# Altium schematic symbol library schlib.SchLib: 132 symbols (part 2 of 2)
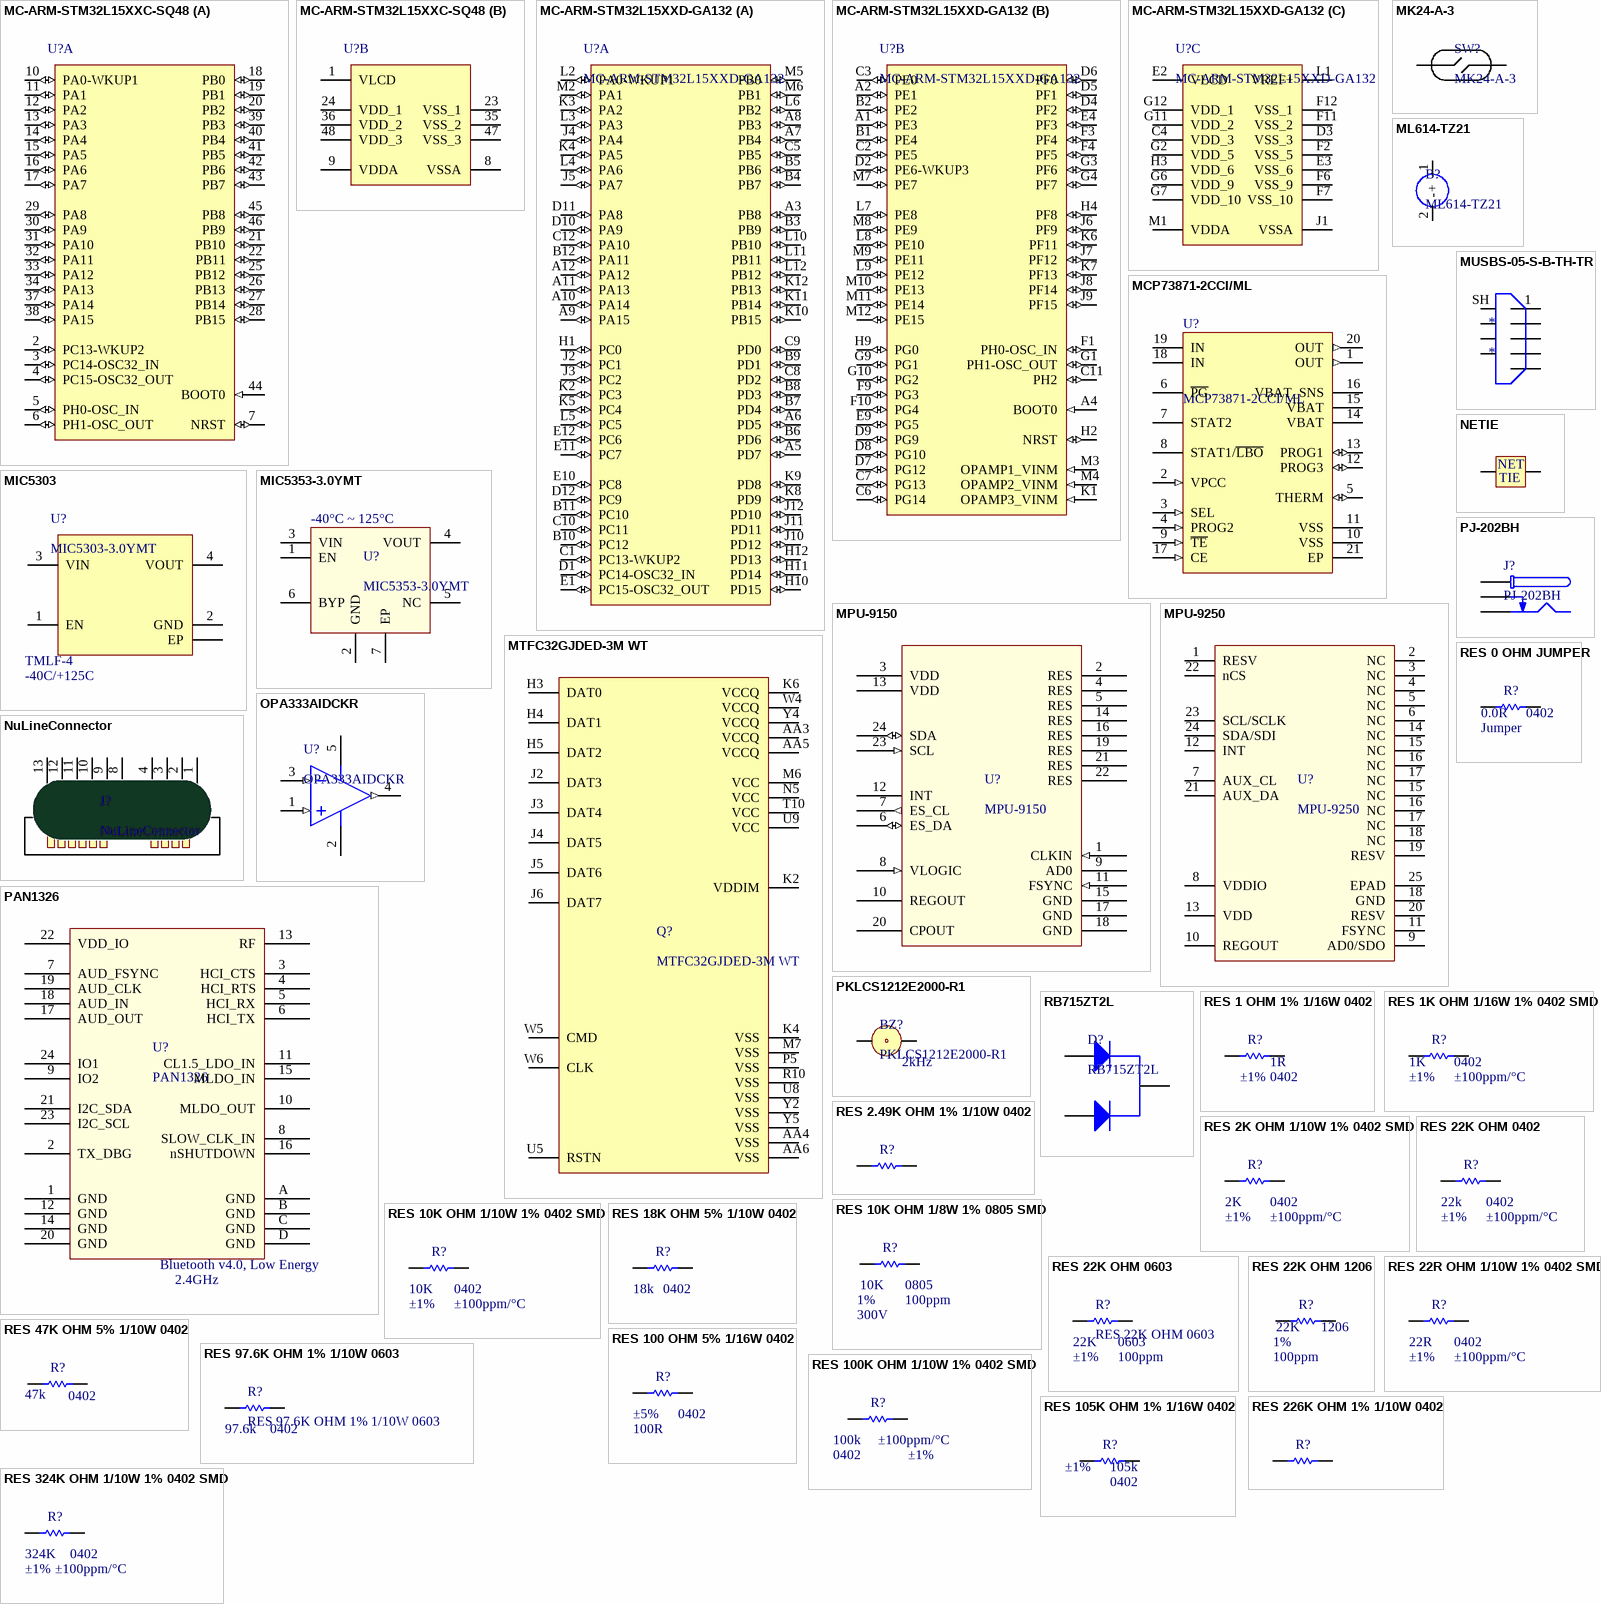
[diagram p5: symbols MC-ARM-STM32L15XXC-SQ48 to RES 324K OHM 1/10W 1% 0402 SMD]

## MC-ARM-STM32L15XXD-GA132
designator U?
MCU ARM 384KB FLASH 132BGA; Core Processor: ARM® Cortex®-M3; Core Size: 32-Bit; Soeed: 32MHz; Connectivity: I²C, IrDA, LIN, SPI, UART/USART, USB; number of I/O: 109; Program Memory Size: 384KB (384K x 8); EEPROM Size: 12K x 8; RAM Size: 48K x 8; Voltage - Supply (Vcc/Vdd): 1.8 V ~ 3.6 V; Program Memory Type: FLASH; Operating Temperature: -40°C ~ 85°C; Package / Case: 132-UFBGA
footprint STM-UFBGA132 (BGA, 132-Balls, Body 7x7mm, Pitch 0.5mm)
part A pins: A3 PB8 (io) "PB8/TIM4_CH3/TIM10_CH1/I2C1_SCL/LCD_SEG16/SDIO_D4", A5 PD7 (io) "PD7/TIM9_CH2/USART2_CK/FSMC_NE1", A6 PD5 (io) "PD5/USART2_TX/FSMC_NWE", A7 PB4 (io) "PB4/NJTRST/TIM3_CH1/SPI1_MISO/SPI3_MISO/LCD_SEG8/COMP2_INP", A8 PB3 (io) "PB3/JTDO/TIM2_CH2/SPI1_SCK/SPI3_SCK/I2S3_CK/LCD_SEG7/COMP2_INM", A9 PA15 (io) "PA15/JTDI/TIM2_CH1_ETR/SPI1_NSS/SPI3_NSS/I2S3_WS/LCD_SEG17", A10 PA14 (io) "PA14/JTCK-SWCLK", A11 PA13 (io) "PA13/JTMS-SWDAT", A12 PA12 (io) "PA12/USART1_RTS/USB_DP/SPI1_MOSI", B3 PB9 (io) "PB9/TIM4_CH4/TIM11_CH1/I2C1_SDA/LCD_COM3/SDIO_D5", B4 PB7 (io) "PB7/TIM4_CH2/I2C1_SDA/USART1_RX/PVD_IN/FSMC_NADV/COMP2_INP", B5 PB6 (io) "PB6/TIM4_CH1/I2C1_SCL/USART1_TX/COMP2_INP", B6 PD6 (io) "PD6/USART2_RX/FSMC_NWAIT", B7 PD4 (io) "PD4/SPI2_MOSI/I2S2_SD/USART2_RTS/FSMC_NOE", B8 PD3 (io) "PD3/SPI2_MISO/USART2_CTS/FSMC_CLK", B9 PD1 (io) "PD1/SPI2_SCK/I2S2_CK/FSMC_D3", B10 PC12 (io) "PC12/SPI3_MOSI/I2S3_SD/USART3_CK/UART5_TX/LCD_SEG30/LCD_SEG42/LCD_COM6/SDIO_CK", B11 PC10 (io) "PC10/SPI3_SCK/I2S3_CK/USART3_TX/UART4_TX/LCD_SEG28/LCD_SEG40/LCD_COM4/SDIO_D2", B12 PA11 (io) "PA11/USART1_CTS/USB_DM/SPI1_MISO", C1 PC13-WKUP2 (io) "PC13-WKUP2/PC13/WKUP2/RTC_TAMP1/RTC_TS/RTC_OUT", C5 PB5 (io) "PB5/TIM3_CH2/I2C1_SMBA/SPI1_MOSI/SPI3_MOSI/I2S3_SD/LCD_SEG9/COMP2_INP", C8 PD2 (io) "PD2/TIM3_ETR/UART5_RX/LCD_SEG31/LCD_SEG43/LCD_COM7/SDIO_CMD", C9 PD0 (io) "PD0/TIM9_CH1/SPI2_NSS/I2S2_WS/FSMC_D2", C10 PC11 (io) "PC11/SPI3_MISO/USART3_RX/UART4_RX/LCD_SEG29/LCD_SEG41/LCD_COM5/SDIO_D3", C12 PA10 (io) "PA10/USART1_RX/LCD_COM2", D1 PC14-OSC32_IN (io) "PC14-OSC32_IN/PC14/OSC32_IN", D10 PA9 (io) "PA9/USART1_TX/LCD_COM1", D11 PA8 (io) "PA8/USART1_CK/MCO/LCD_COM0", D12 PC9 (io) "PC9/TIM3_CH4/LCD_SEG27/SDIO_D1", E1 PC15-OSC32_OUT (io) "PC15-OSC32_OUT/PC15/OSC32_OUT", E10 PC8 (io) "PC8/TIM3_CH3/LCD_SEG26/SDIO_D0", E11 PC7 (io) "PC7/TIM3_CH2/I2S3_MCK/LCD_SEG25/SDIO_D7", E12 PC6 (io) "PC6/TIM3_CH1/I2S2_MCK/LCD_SEG24/SDIO_D6", H1 PC0 (io) "PC0/LCD_SEG18/ADC_IN10/COMP1_INP", H10 PD15 (io) "PD15/TIM4_CH4/LCD_SEG35/FSMC_D1", H11 PD14 (io) "PD14/TIM4_CH3/LCD_SEG34/FSMC_D0", H12 PD13 (io) "PD13/TIM4_CH2/LCD_SEG33/FSMC_A18", J2 PC1 (io) "PC1/LCD_SEG19/ADC_IN11/COMP1_INP/OPAMP3_VINP", J3 PC2 (io) "PC2/LCD_SEG20/ADC_IN12/COMP1_INP", J4 PA4 (io) "PA4/SPI1_NSS/SPI3_NSS/I2S3_WS/USART2_CK/ADC_IN4/DAC_OUT1/COMP1_INP", J5 PA7 (io) "PA7/TIM3_CH2/TIM11_CH1/SPI1_MOSI/LCD_SEG4/ADC_IN7/COMP1_INP", J10 PD12 (io) "PD12/TIM4_CH1/USART3_RTS/LCD_SEG32/FSMC_A17", J11 PD11 (io) "PD11/USART3_CTS/LCD_SEG31/FSMC_A16", J12 PD10 (io) "PD10/USART3_CK/LCD_SEG30/FSMC_D15", K2 PC3 (io) "PC3/LCD_SEG21/ADC_IN13/COMP1_INP/OPAMP3_VOUT", K3 PA2 (io) "PA2/TIM2_CH3/TIM5_CH3/TIM9_CH1/USART2_TX/LCD_SEG1/ADC_IN2/COMP1_INP", K4 PA5 (io) "PA5/TIM2_CH1_ETR/SPI1_SCK/ADC_IN5/DAC_OUT2/COMP1_INP", K5 PC4 (io) "PC4/LCD_SEG22/ADC_IN14/COMP1_INP", K8 PD9 (io) "PD9/USART3_RX/LCD_SEG29/FSMC_D14", K9 PD8 (io) "PD8/USART3_TX/LCD_SEG28/FSMC_D13", K10 PB15 (io) "PB15/TIM11_CH1/SPI2_MOSI/I2S2_SD/LCD_SEG15/ADC_IN21/COMP1_INP/RTC_REFIN", K11 PB14 (io) "PB14/TIM9_CH2/SPI2_MISO/USART3_RTS/LCD_SEG14/ADC_IN20/COMP1_INP", K12 PB13 (io) "PB13/TIM9_CH1/SPI2_SCK/I2S2_CK/USART3_CTS/LCD_SEG13/ADC_IN19/COMP1_INP", L2 PA0-WKUP1 (io) "PA0-WKUP1/PA0/WKUP1/RTC_TAMP2/TIM2_CH1_ETR/TIM5_CH1/USART2_CTS/ADC_IN0/COMP1_INP", L3 PA3 (io) "PA3/TIM2_CH4/TIM5_CH4/TIM9_CH2/USART2_RX/LCD_SEG2/ADC_IN3/COMP1_INP/OPAMP1_VOUT", L4 PA6 (io) "PA6/TIM3_CH1/TIM10_CH1/SPI1_MISO/LCD_SEG3/ADC_IN6/COMP1_INP/OPAMP2_VINP", L5 PC5 (io) "PC5/LCD_SEG23/ADC_IN15/COMP1_INP", L6 PB2 (io) "PB2/BOOT1/ADC_IN0B/COMP1_INP", L10 PB10 (io) "PB10/TIM2_CH3/I2C2_SCL/USART3_TX/LCD_SEG10", L11 PB11 (io) "PB11/TIM2_CH4/I2C2_SDA/USART3_RX/LCD_SEG11", L12 PB12 (io) "PB12/TIM10_CH1/I2C2_SMBA/SPI2_NSS/I2S2_WS/USART3_CK/LCD_SEG12/ADC_IN18/COMP1_INP", M2 PA1 (io) "PA1/TIM2_CH2/TIM5_CH2/USART2_RTS/LCD_SEG0/ADC_IN1/COMP1_INP/OPAMP1_VINP", M5 PB0 (io) "PB0/TIM3_CH3/LCD_SEG5/ADC_IN8/COMP1_INP/VREF_OUT/OPAMP2_VOUT", M6 PB1 (io) "PB1/TIM3_CH4/LCD_SEG6/ADC_IN9/COMP1_INP/VREF_OUT"
part B pins: A1 PE3 (io) "PE3/TIM3_CH1/LCD_SEG39/FSMC_A19/TRACED0", A2 PE1 (io) "PE1/TIM11_CH1/LCD_SEG37/FSMC_NBL1", A4 BOOT0 (in), B1 PE4 (io) "PE4/TIM3_CH2/FSMC_A20/TRACED1", B2 PE2 (io) "PE2/TIM3_ETR/LCD_SEG38/FSMC_A23/TRACECLK", C2 PE5 (io) "PE5/TIM9_CH1/FSMC_A21/TRACED2", C3 PE0 (io) "PE0/TIM4_ETR/TIM10_CH1/LCD_SEG36/FSMC_NBL0", C6 PG14 (io) "PG14/FSMC_A25", C7 PG13 (io) "PG13/FSMC_A24", C11 PH2 (io) "PH2/FSMC_A22", D2 PE6-WKUP3 (io) "PE6-WKUP3/PE6/WKUP3/RTC_TAMP3/TIM9_CH2/TRACED3", D4 PF2 (io) "PF2/FSMC_A2", D5 PF1 (io) "PF1/FSMC_A1", D6 PF0 (io) "PF0/FSMC_A0", D7 PG12 (io) "PG12/FSMC_NE4", D8 PG10 (io) "PG10/FSMC_NE3", D9 PG9 (io) "PG9/FSMC_NE2", E4 PF3 (io) "PF3/FSMC_A3", E9 PG5 (io) "PG5/FSMC_A15", F1 PH0-OSC_IN (io) "PH0-OSC_IN/PH0/OSC_IN", F3 PF4 (io) "PF4/FSMC_A4", F4 PF5 (io) "PF5/FSMC_A5", F9 PG3 (io) "PG3/FSMC_A13/ADC_IN11B/COMP1_INP", F10 PG4 (io) "PG4/FSMC_A14/ADC_IN12B/COMP1_INP", G1 PH1-OSC_OUT (io) "PH1-OSC_OUT/PH1/OSC_OUT", G3 PF6 (io) "PF6/TIM5_CH1/TIM5_ETR/ADC_IN27", G4 PF7 (io) "PF7/TIM5_CH2/ADC_IN28/COMP1_INP", G9 PG1 (io) "PG1/ADC_IN9B/COMP1_INP/FSMC_A11", G10 PG2 (io) "PG2/FSMC_A12/ADC_IN10B/COMP1_INP", H2 NRST (io), H4 PF8 (io) "PF8/TIM5_CH3/ADC_IN29/COMP1_INP", H9 PG0 (io) "PG0/ADC_IN8B/COMP1_INP/FSMC_A10", J6 PF9 (io) "PF9/TIM5_CH4/ADC_IN30/COMP1_INP", J7 PF12 (io) "PF12/ADC_IN2B/COMP1_INP/FSMC_A6", J8 PF14 (io) "PF14/ADC_IN6B/COMP1_INP/FSMC_A8", J9 PF15 (io) "PF15/ADC_IN7B/COMP1_INP/FSMC_A9", K1 OPAMP3_VINM (in), K6 PF11 (io) "PF11/ADC_IN1B/COMP1_INP", K7 PF13 (io) "PF13/ADC_IN3B/COMP1_INP/FSMC_A7", L7 PE8 (io) "PE8/FSMC_D5/ADC_IN23/COMP1_INP", L8 PE10 (io) "PE10/TIM2_CH2/FSMC_D7/ADC_IN25/COMP1_INP", L9 PE12 (io) "PE12/TIM2_CH4/SPI1_NSS/FSMC_D9", M3 OPAMP1_VINM (in), M4 OPAMP2_VINM (in), M7 PE7 (io) "PE7/FSMC_D4/ADC_IN22/COMP1_INP", M8 PE9 (io) "PE9/TIM2_CH1_ETR/FSMC_D6/ADC_IN24/COMP1_INP", M9 PE11 (io) "PE11/TIM2_CH3/FSMC_D8", M10 PE13 (io) "PE13/SPI1_SCK/FSMC_D10", M11 PE14 (io) "PE14/SPI1_MISO/FSMC_D11", M12 PE15 (io) "PE15/SPI1_MOSI/FSMC_D12"
part C pins: C4 VDD_3 (power), D3 VSS_3 (power), E2 VLCD (power), E3 VSS_6 (power), F2 VSS_5 (power), F6 VSS_9 (power), F7 VSS_10 (power), F11 VSS_2 (power), F12 VSS_1 (power), G2 VDD_5 (power), G6 VDD_9 (power), G7 VDD_10 (power), G11 VDD_2 (power), G12 VDD_1 (power), H3 VDD_6 (power), J1 VSSA (power), L1 VREF+ (power), M1 VDDA (power)

## MCP73871-2CCI/ML
designator U?
IC USB/AC BATT CHRGR W/PPM 20QFN; Function: Charge Management; Battery Chemistry: Li-Ion, Li-Pol; Voltage - Supply: 4.4 V ~ 6 V; Operating Temperature: -40°C ~ 85°C; Package / Case: 20-VFQFN Exposed Pad
footprint MCP73871-2CCI/ML (QFN, 20-Leads, Body 4x4mm, Pitch 0.5mm, Thermal Pad 2.8x2.8mm, IPC Medium Density)
pins: 1 OUT (out), 2 VPCC (in), 3 SEL (in), 4 PROG2 (in), 5 THERM (io), 6 ~{PG} (oc), 7 STAT2 (oc), 8 STAT1/~{LBO} (oc), 9 ~{TE} (in), 10 VSS (power), 11 VSS (power), 12 PROG3 (io), 13 PROG1 (io), 14 VBAT (power), 15 VBAT (power), 16 VBAT_SNS (power), 17 CE (in), 18 IN (power), 19 IN (power), 20 OUT (out), 21 EP (power)

## MIC5303
designator U?, comment MIC5303-3.0YMT  Package: TMLF-4  Operating Temperature: -40C/+125C
IC REG LDO 3V 0.3A TMLF-4 (1.2x1.6)
footprint TMLF-4 (4-Pin 1.2mm x 1.6mm Thin MLF)
pins: 1 EN, 2 GND, 3 VIN, 4 VOUT, EP

## MIC5353-3.0YMT
designator U?  Operating Temperature: -40°C ~ 125°C
IC REG LDO 3V 0.5A 6TMLF; Current Output: 500mA; Voltage - Dropout (Typical): 0.16V @ 500mA; Number of Regulators: 1; Voltage - Input: Up to 6V; Current - Limit (Min): 600mA; Voltage Output: 3V; Package / Case: 6-TMLF® (1.6x1.6)
footprint 6-TMLF (6-TMLF® (1.6x1.6))
pins: 1 EN, 2 GND, 3 VIN, 4 VOUT, 5 NC, 6 BYP, 7 EP

## MK24-A-3
designator SW?
REED SENSOR 23-50AT J-LEAD; Circuit: SPST-NO; Must Operate: 5 ~ 10AT; Switching Current (DC) (Max): 100mA; Switching Voltage (DC) (Max): 30V; Switching Power (Max): 1W; Termination Style: J Lead
footprint MK24-A-3 (REED SENSOR 23-50AT J-LEAD)
pins: 1, 2

## ML614-TZ21
designator B?
BATT LITH 3V RECHARGE W/TABS; Battery Chemistry: Lithium; Battery Cell Size: Coin, 6.8mm; Capacity: 3.4mAh; Discharge RAte: 15µA; Voltage - Rated: 3V; Size Dimensions: 0.27" Dia x 0.06" H (6.8mm x 1.4mm)
footprint ML614-TZ21 (BATT LITH 3V RECHARGE W/TABS)
pins: 1 +, 2 -

## MPU-9150
designator U?
GYRO/ACCELEROMETER 9-AXIS 24LGA
footprint MPU-9150
pins: 1 CLKIN (in), 2 RES, 3 VDD (power), 4 RES, 5 RES, 6 ES_DA (io), 7 ES_CL (out), 8 VLOGIC (in), 9 AD0, 10 REGOUT, 11 FSYNC (in), 12 INT, 13 VDD, 14 RES, 15 GND, 16 RES, 17 GND, 18 GND, 19 RES, 20 CPOUT, 21 RES, 22 RES, 23 SCL (in), 24 SDA (io)

## MPU-9250
designator U?
GYRO/ACCEL/COMPASS/9-AXIS; Sensor Type: Accelerometer, Gyroscope, Magnetometer, 3 Axis; Output Type: I²C, SPI
footprint MPU-9250 (QFN, 24-Leads, Body 3.00x3.00mm, Pitch 0.40mm, Thermal Pad 1.70x1.54mm, IPC Medium Density)
pins: 1 RESV, 2 NC, 3 NC, 4 NC, 5 NC, 6 NC, 7 AUX_CL, 8 VDDIO, 9 AD0/SDO, 10 REGOUT, 11 FSYNC, 12 INT, 13 VDD, 14 NC, 15 NC, 15 NC, 16 NC, 16 NC, 17 NC, 17 NC, 18 GND, 18 NC, 19 RESV, 20 RESV, 21 AUX_DA, 22 nCS, 23 SCL/SCLK, 24 SDA/SDI, 25 EPAD

## MTFC32GJDED-3M WT
designator Q?
32GX8 MCP PLASTIC WIRELESS TEMP PBF VFBGA
footprint BGA169C50P14X28_1400X1800X140 (BGA, 169-Leads, Body 14.00x18.00mmx1.40mm, Pitch 0.50mm)
pins: AA3 VCCQ, AA4 VSS, AA5 VCCQ, AA6 VSS, H3 DAT0, H4 DAT1, H5 DAT2, J2 DAT3, J3 DAT4, J4 DAT5, J5 DAT6, J6 DAT7, K2 VDDIM, K4 VSS, K6 VCCQ, M6 VCC, M7 VSS, N5 VCC, P5 VSS, R10 VSS, T10 VCC, U5 RSTN, U8 VSS, U9 VCC, W4 VCCQ, W5 CMD, W6 CLK, Y2 VSS, Y4 VCCQ, Y5 VSS

## MUSBS-05-S-B-TH-TR
designator *
footprint MUSBS-05-S-B-TH-TR-ND (CONN RECEPT USB MINI B VERT)
pins: 1 5V, 2 D-, 3 D+, 4 ID, 5 GND, SH, SH, SH, SH

## NETIE
designator J?, comment NET TIE  (value not drawn)  (net tie, no BOM)
footprint NET TIE (30mils to 30mils)
pins: 1, 2
text: NET; TIE

## NuLineConnector
designator J?
Pads for NuLine Proprietary Connector
footprint NuLine Connector (Pads for NuLine Proprietary connector)
pins: 1, 2, 3, 4, 8, 9, 10, 11, 12, 13

## OPA333AIDCKR
designator U?
IC OPAMP CHOPPER 350KHZ SC70-5; Amplifier Type: Zero-Drift; Number of Circuits: 1; Output Type: Rail-to-Rail; Slew Rate: 0.16 V/µs; Current - Input Bias: 70pA; Voltage - Input Offset: 2µV; Current - Supply: 17µA; Current - Output / Channel: 5mA; Voltage - Supply, Single/Dual (±): 1.8 V ~ 5.5 V, ±0.9 V ~ 2.75 V; Gain Bandwidth Product: 350kHz; Operating Temperature: -40°C ~ 125°C; Package / Case: 6-TSSOP (5 Lead), SC-88A, SOT-353
footprint SC70 (SC70, 5-Leads, Body 2x1.25mm, Pitch 0.65mm)
pins: 1 IN+ (in), 2 V- (power), 3 IN- (in), 4 OUT (out), 5 V+ (power)

## PAN1326
designator U?  Frequency: 2.4GHz  Modulation or Protoco: Bluetooth v4.0, Low Energy
MOD BT + BLE HCI W/ANTENNA; Power - Output: 10dBm; Sensitivity: -93dBm; Voltage - Supply: 1.7 V ~ 4.8 V; Current - Receiving: 33mA; Antenna Connector: On-Board, Chip; Current - Transmitting: 33mA; Operating Temperature: -20°C ~ 70°C
footprint PAN1326 (MOD BT + BLE HCI W/ANTENNA)
pins: 1 GND, 2 TX_DBG, 3 HCI_CTS, 4 HCI_RTS, 5 HCI_RX, 6 HCI_TX, 7 AUD_FSYNC, 8 SLOW_CLK_IN, 9 IO2, 10 MLDO_OUT, 11 CL1.5_LDO_IN, 12 GND, 13 RF, 14 GND, 15 MLDO_IN, 16 nSHUTDOWN, 17 AUD_OUT, 18 AUD_IN, 19 AUD_CLK, 20 GND, 21 I2C_SDA, 22 VDD_IO, 23 I2C_SCL, 24 IO1, A GND, B GND, C GND, D GND

## PJ-202BH
designator J?
CONN PWR JACK 2.5X5.5MM HIGH CUR; Gender: Male; Plug/Mating Plug Diameter: 2.5mm ID, 5.5mm OD; Number of Positions/Contacts: 2 Conductors, 3 Contacts; Internal Switch(s): Single Switch, Normally Closed; Shielding: Unshielded; Voltage - Rated: 24VDC; Current Rating: 5A; Connector Type: Jack; Mounting Type: Through Hole, Right Angle; Termination: Solder; Color: Black; Contact Material: Copper; Contact Material Plating: Nickel; Operating Temperature: -25°C ~ 85°C; Housing Material: Thermoplastic
footprint PJ-202BH (CONN PWR JACK 2.5X5.5MM HIGH CUR)
pins: 1, 2, 3

## PKLCS1212E2000-R1
designator BZ?  Frequency: 2kHz
BUZZER PIEZO 25VP-P SMD; Driver Circuitry: Transducer, Externally Driven; Input Type: peak-peak Signal; Voltage - Rated: 3Vp-p; Voltage Range: 25V (Max); Operating Mode: Continuous; Technology: Piezo; Size / Dimensions: Square - 12.00mm L x 12.00mm W x 3.00mm H; Operating Temperatures: -20°C ~ 70°C
footprint PKLCS1212E2000-R1 (BUZZER PIEZO 25VP-P SMD)
pins: 1, 2

## RB715ZT2L
designator D?
DIODE SCHOTTKY 40V 30MA VMD3; Diode Configuration: 1 Pair Common Cathode; Voltage - Forward (Vf) (Max) @ If: 370mV @ 1mA; Current - Reverse Leakage @ Vr: 1µA @ 10V; Diode Type: Schottky; Voltage - DC Reverse (Vr) (Max): 40V; Current - Average Rectified (Io) (per Diode): 30mA; Package / Case: SOT-723
footprint SOT-723 (DIODE SCHOTTKY 40V 30MA VMD3)
pins: 1, 2, 3

## RES 0 OHM JUMPER
designator R?, comment Resistance: 0.0R  Tolerance: Jumper  Package / Case: 0402  (hidden comment: RES 0.0 OHM 1/10W JUMP 0402 SMD)
Power (Watts): 0.1W, 1/10W
footprint RES 0402 (Chip Resistor, Body 1.0x0.5mm, IPC Medium Density)
pins: 1, 2

## RES 1 OHM 1% 1/16W 0402
designator R?  Resistance (Ohms): 1R  Tolerance: ±1%  Package / Case: 0402  (hidden comment: RES 1 OHM 1% 1/16W 0402)
Power (Watts): 0.063W, 1/16W; Temperature Coefficient: ±400ppm/°C; Operating Temperature: -55°C ~ 155°C
footprint RES 0402 (Chip Resistor, Body 1.0x0.5mm, IPC Medium Density)
pins: 1, 2

## RES 1K OHM 1/16W 1% 0402 SMD
designator R?  Tolerance: ±1%  Resistance (Ohms): 1K  Temperature Coefficient: ±100ppm/°C  Package / Case: 0402  (hidden comment: RES 1K OHM 1/16W 1% 0402 SMD)
Power (Watts): 0.063W, 1/16W
footprint RES 0402 (Chip Resistor, Body 1.0x0.5mm, IPC Medium Density)
pins: 1, 2

## RES 2.49K OHM 1% 1/10W 0402
designator R?  (value not drawn)
Power (Watts): 0.1W, 1/10W; Temperature Coefficient: ±100ppm/°C; Resistance (Ohms): 2.49k; Tolerance: ±1%; Operating Temperature: -55°C ~ 155°C; Package / Case: 0402
footprint RES 0402 (Chip Resistor, Body 1.0x0.5mm, IPC Medium Density)
pins: 1, 2

## RES 2K OHM 1/10W 1% 0402 SMD
designator R?  Temperature Coefficient: ±100ppm/°C  Resistance: 2K  Tolerance: ±1%  Package / Case: 0402  (hidden comment: RES 2K OHM 1/10W 1% 0402 SMD)
2K 1% 0402; Power (Watts): 0.1W, 1/10W; Size / Dimensions: 0.039" L x 0.020" W (1.00mm x 0.50mm); Height: 0.016" (0.40mm)
footprint RES 0402 (Chip Resistor, Body 1.0x0.5mm, IPC Medium Density)
pins: 1, 2

## RES 10K OHM 1/8W 1% 0805 SMD
designator R?  value 10K  Tolerance: 1%  Temperature Coefficient: 100ppm  Package / Case: 0805  Voltage: 300V  (hidden comment: RES 10K OHM 1/8W 1% 0805 SMD)
10K K 1/8W 1% 0805 SMD; Power (Watts): 0.1W, 1/10W
footprint RESC0805(2012)_N (Chip Resistor, Body 2.0x1.3mm, IPC Medium Density)
pins: 1, 2

## RES 10K OHM 1/10W 1% 0402 SMD
designator R?  Temperature Coefficient: ±100ppm/°C  Resistance: 10K  Tolerance: ±1%  Package / Case: 0402  (hidden comment: RES 10K OHM 1/10W 1% 0402 SMD)
10K 1% 0402; Power (Watts): 0.1W, 1/10W; Size / Dimensions: 0.039" L x 0.020" W (1.00mm x 0.50mm); Height: 0.016" (0.40mm)
footprint RES 0402 (Chip Resistor, Body 1.0x0.5mm, IPC Medium Density)
pins: 1, 2

## RES 18K OHM 5% 1/10W 0402
designator R?  Resistance (Ohms): 18k  Package / Case: 0402  (hidden comment: RES 18K OHM 5% 1/10W 0402)
Power (Watts): 0.1W, 1/10W; Temperature Coefficient: ±200ppm/°C; Tolerance: ±5%; Operating Temperature: -55°C ~ 155°C
footprint RES 0402 (Chip Resistor, Body 1.0x0.5mm, IPC Medium Density)
pins: 1, 2

## RES 22K OHM 0402
designator R?, comment Resistnace (Ohms): 22k  Tolerance: ±1%  Temperauret Coefficient: ±100ppm/°C  Package / Case: 0402  (hidden comment: RES 22K OHM 1/16W 1% 0402 SMD)
Power (Watts): 0.063W, 1/16W
footprint RES 0402 (Chip Resistor, Body 1.0x0.5mm, IPC Medium Density)
pins: 1, 2

## RES 22K OHM 0603
designator R?  Drift: 100ppm  Package / Case: 0603  Resistance: 22K  Tolerance: ±1%
Nicrom 22K High Voltage Chip Resistor; Operating Temperature: -55C-220C
footprint RES 0603 (Chip Resistor, Body 1.6x0.8mm, IPC Medium Density)
pins: 1, 2

## RES 22K OHM 1206
designator R?  Resistance: 22K  Package / Case: 1206  Tolerance: 1%  Drift: 100ppm  (hidden comment: RES 22K OHM 1206)
NICROM 22K High Coltage Chip Resistor; VCR: 3.2 ppm/V; Operating Temperature: -55C-220C
footprint RES 1206 (NICROM) (Chip Resistor, 2-Leads, Body 3.25x1.60mm, IPC Medium Density)
pins: 1, 2

## RES 22R OHM 1/10W 1% 0402 SMD
designator R?  Temperature Coefficient: ±100ppm/°C  Resistance: 22R  Tolerance: ±1%  Package / Case: 0402  (hidden comment: RES 22R OHM 1/10W 1% 0402 SMD)
22R 1% 0402; Power (Watts): 0.1W, 1/10W; Size / Dimensions: 0.039" L x 0.020" W (1.00mm x 0.50mm); Height: 0.016" (0.40mm)
footprint RES 0402 (Chip Resistor, Body 1.0x0.5mm, IPC Medium Density)
pins: 1, 2

## RES 47K OHM 5% 1/10W 0402
designator R?  Resistance (Ohms): 47k  Package / Case: 0402  (hidden comment: RES 47K OHM 5% 1/10W 0402)
Power (Watts): 0.1W, 1/10W; Temperature Coefficient: ±200ppm/°C; Tolerance: ±5%; Operating Temperature: -55°C ~ 155°C
footprint RES 0402 (Chip Resistor, Body 1.0x0.5mm, IPC Medium Density)
pins: 1, 2

## RES 97.6K OHM 1% 1/10W 0603
designator R?  Resistance (Ohms): 97.6k  Package / Case: 0402
Power (Watts): 0.1W, 1/10W; Temperature Coefficient: ±100ppm/°C; Tolerance: ±1%; Operating Temperature: -55°C ~ 155°C
footprint RES 0402 (Chip Resistor, Body 1.0x0.5mm, IPC Medium Density)
pins: 1, 2

## RES 100 OHM 5% 1/16W 0402
designator R?  Resistance (Ohms): 100R  Tolerance: ±5%  Package / Case: 0402  (hidden comment: RES 100 OHM 5% 1/16W 0402)
RES SMD 100 OHM 5% 1/16W 0402; Power (Watts): 0.063W, 1/16W; Temperature Coefficient: ±100ppm/°C; Operating Temperature: -55°C ~ 155°C
footprint RES 0402 (Chip Resistor, Body 1.0x0.5mm, IPC Medium Density)
pins: 1, 2

## RES 100K OHM 1/10W 1% 0402 SMD
designator R?  Resistance (Ohms): 100k  Tolerance: ±1%  Temperature Coefficient: ±100ppm/°C  Package / Case: 0402  (hidden comment: RES 100K OHM 1/10W 1% 0402 SMD)
Power (Watts): 0.1W, 1/10W
footprint RES 0402 (Chip Resistor, Body 1.0x0.5mm, IPC Medium Density)
pins: 1, 2

## RES 105K OHM 1% 1/16W 0402
designator R?, comment Resistance (Ohms): 105k  Tolerance: ±1%  Package / Case: 0402  (hidden comment: *RES 105K OHM 1% 1/16W 0402)
RES 105K OHM 1% 1/16W 0402; Power (Watts): 0.063W, 1/16W; Temperature Coefficient: ±100ppm/°C; Operating Temperature: -55°C ~ 155°C
footprint RES 0402 (Chip Resistor, Body 1.0x0.5mm, IPC Medium Density)
pins: 1, 2

## RES 226K OHM 1% 1/10W 0402
designator R?  (value not drawn)
RES SMD 226K OHM 1% 1/10W 0402; Power (Watts): 0.1W, 1/10W; Temperature Coefficient: ±100ppm/°C; Resistance (Ohms): 226K; Tolerance: ±1%; Operating Temperature: -55°C ~ 155°C; Package / Case: 0402
footprint RES 0402 (Chip Resistor, Body 1.0x0.5mm, IPC Medium Density)
pins: 1, 2

## RES 324K OHM 1/10W 1% 0402 SMD
designator R?, comment Temperature Coefficient: ±100ppm/°C  Resistance: 324K  Tolerance: ±1%  Package / Case: 0402  (hidden comment: RES 324K 1% 0402)
RES 324K OHM 1/10W 1% 0402 SMD; Power (Watts): 0.1W; Size / Dimensions: 0.039" L x 0.020" W (1.00mm x 0.50mm); Height: 0.016" (0.40mm)
footprint RES 0402 (Chip Resistor, Body 1.0x0.5mm, IPC Medium Density)
pins: 1, 2

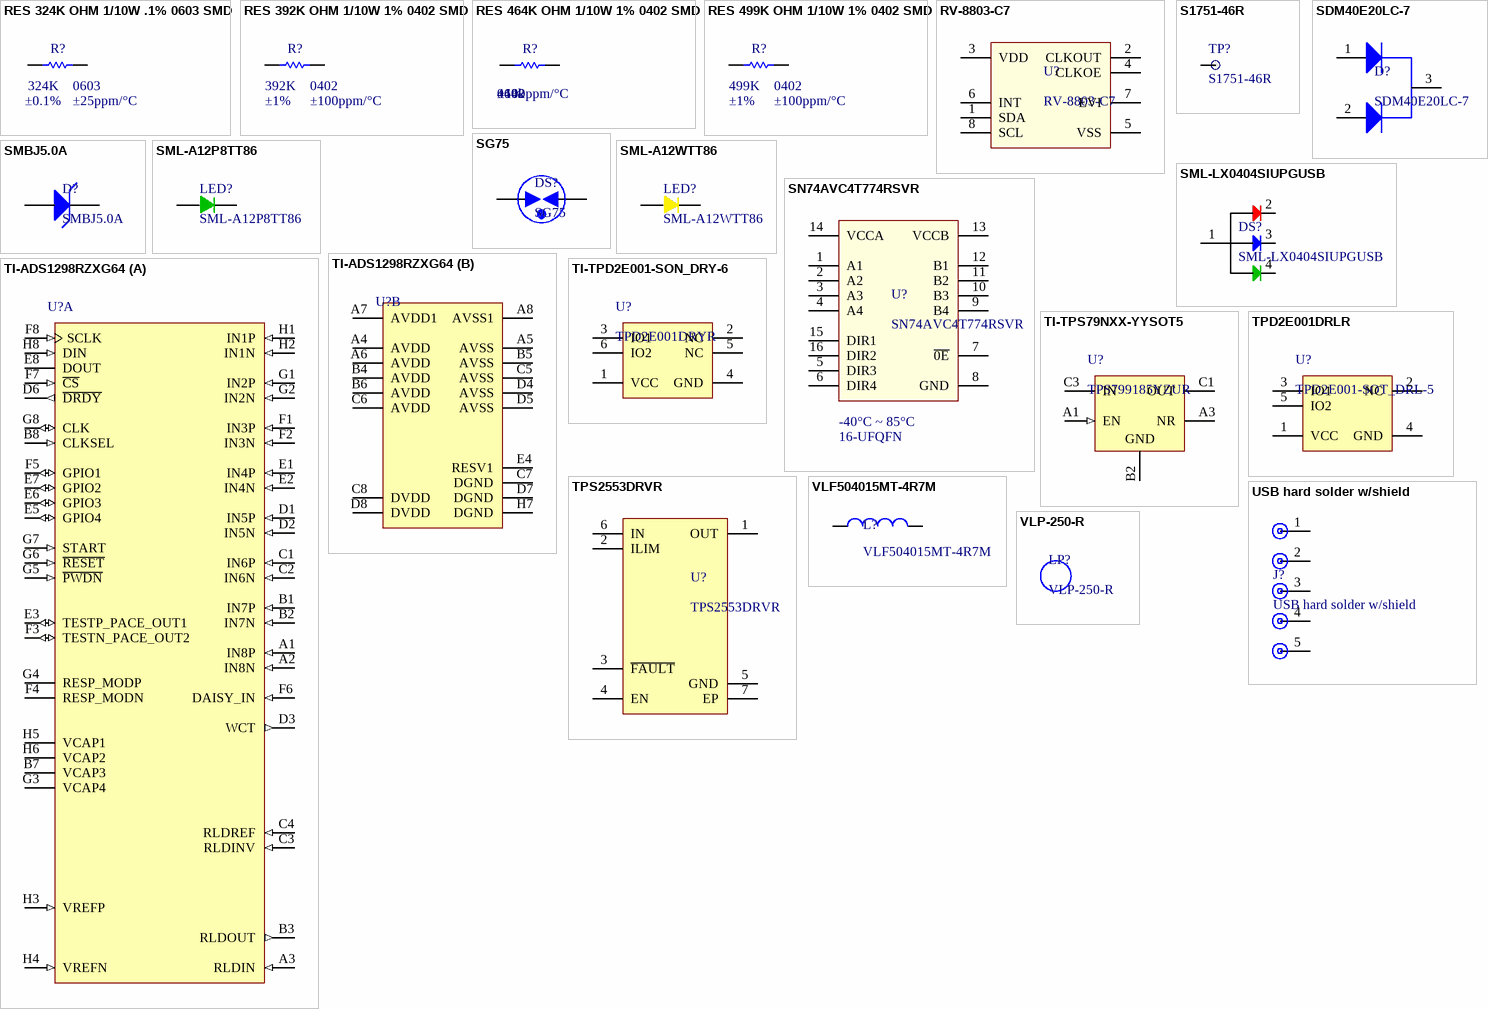
[diagram p3: symbols RES 324K OHM 1/10W .1% 0603 SMD to VLP-250-R]

## RES 324K OHM 1/10W .1% 0603 SMD
designator R?  value 324K  Tolerance: ±0.1%  Temperature Coefficient: ±25ppm/°C  Package / Case: 0603  (hidden comment: RES 324K OHM 1/10W .1% 0603 SMD)
324 K 0.1 W 1% 0603 (1608 Metric) SMD; Power (Watts): 0.1W, 1/10W
footprint RES 0603 (Chip Resistor, Body 1.6x0.8mm, IPC Medium Density)
pins: 1, 2

## RES 392K OHM 1/10W 1% 0402 SMD
designator R?  Temperature Coefficient: ±100ppm/°C  Resistance: 392K  Tolerance: ±1%  Package / Case: 0402  (hidden comment: RES 392K OHM 1/10W 1% 0402 SMD)
392K 1% 0402; Power (Watts): 0.1W, 1/10W; Size / Dimensions: 0.039" L x 0.020" W (1.00mm x 0.50mm); Height: 0.016" (0.40mm)
footprint RES 0402 (Chip Resistor, Body 1.0x0.5mm, IPC Medium Density)
pins: 1, 2

## RES 464K OHM 1/10W 1% 0402 SMD
designator R?  Resistance: 464k  Tolerance: ±1%  Temperature Coefficient: ±100ppm/°C  Package / Case: 0402  (hidden comment: RES 464K OHM 1/10W 1% 0402 SMD)
Power (Watts): 0.1W, 1/10W
footprint RES 0402 (Chip Resistor, Body 1.0x0.5mm, IPC Medium Density)
pins: 1, 2

## RES 499K OHM 1/10W 1% 0402 SMD
designator R?  Temperature Coefficient: ±100ppm/°C  Resistance: 499K  Tolerance: ±1%  Package / Case: 0402  (hidden comment: RES 499K OHM 1/10W 1% 0402 SMD)
499K 1% 0402; Power (Watts): 0.1W, 1/10W; Size / Dimensions: 0.039" L x 0.020" W (1.00mm x 0.50mm); Height: 0.016" (0.40mm)
footprint RES 0402 (Chip Resistor, Body 1.0x0.5mm, IPC Medium Density)
pins: 1, 2

## RV-8803-C7
designator U?
Real Time Clock Module with I2C-Bus
footprint RV-8803-C7
pins: 1 SDA, 2 CLKOUT, 3 VDD, 4 CLKOE, 5 VSS, 6 INT, 7 EVI, 8 SCL

## S1751-46R
designator TP?
PC TEST POINT TIN SMD
footprint S1751-46R (PC TEST POINT TIN SMD)
pins: TP

## SDM40E20LC-7
designator D?
DIODE ARRAY SCHOTTKY 20V SOT23-3; Diode Configuration: 1 Pair Common Cathode; Current - Average Rectified (Io) (per Diode): 400mA (DC); Voltage - Forward (Vf) (Max) @ If: 310mV @ 100mA; Speed: Fast Recovery =< 500ns, > 200mA (Io); Current - Reverse Leakage @ Vr: 250µA @ 20V; Diode Type: Schottky; Voltage - DC Reverse (Vr) (Max): 20V
footprint SDM40E20LC-7 (SOT23, 3-Leads, Body 2.90x2.40mm, Pitch 1.00mm, IPC Medium Density)
pins: 1, 2, 3

## SG75
designator DS?
SURGE ARRESTER GDT 75V 2KA SMD; Impulse Discharge Current (8/20µs): 2.0kA; Tolerance: ±30%; Number of Poles: 2; Fail Short: No; Current - AC Discharge (Nom): 2A; Voltage - DC Spark Over (Nom): 75V; Package / Case: 1812; Operating Temperature: -40C/+90C
footprint SG75 (SURGE ARRESTER GDT 75V 2KA SMD)
pins: 1, 2

## SMBJ5.0A
designator D?
TVS DIODE 5VWM 9.2VC SMB; Type: Zener; Unidirectional Channels: 1; Voltage - Reverse Standoff (Typ): 5V; Voltage - Breakdown (Min): 6.4V; Voltage - Clamping (Max) @ Ipp: 9.2V; Current - Peak Pulse (10/1000µs): 65.3A; Power - Peak Pulse: 600W; Power Line Protection: No; Operating Temperature: -55°C ~ 150°C (TJ)
footprint DO-214AA, SMB (DO-214AA (SMB J-Bend))
pins: 1, 2

## SML-A12P8TT86
designator LED?
LED 560NM GREEN TRANSPARENT 0605; Millicandela Rating: 6.3mcd; Voltage - Forward (Vf) (Typ): 2.2V; Current - Test: 20mA; Lens Transperancy: Clear; Lens Color: Colorless; Lens Style/Size: Rectangle with Flat Top, 1.20mm x 0.55mm; Color: Green; Wavelength - Dominant: 560nm; Package / Case: 2-SMD, No Lead; Size / Dimension: 1.60mm L x 1.15mm W
footprint SML-A1 EXCELED™ Series
pins: 1, 2

## SML-A12WTT86
designator LED?
LED 590NM YELLOW WTR CLR RA SMD; Millicandela Rating: 63mcd; Voltage - Forward (Vf) (Typ): 2V; Current - Test: 20mA; Lens Transperancy: Clear; Lens Color: Colorless; Lens Style/Size: Rectangle with Flat Top, 1.20mm x 0.55mm; Color: Yellow; Wavelength - Dominant: 590nm; Package / Case: 2-SMD, No Lead
footprint SML-A1 EXCELED™ Series
pins: 1, 2

## SML-LX0404SIUPGUSB
designator DS?
LED RGB SQUARE CLEAR SMD; Color: Red, Green, Blue (RGB); Wavelength - Peak: 632nm, 518nm, 465nm; Millicandela Rating: 30mcd Red, 40mcd Green, 20mcd Blue; Voltage - Forward (Vf) (Typ): 1.95V Red, 2.85V Green, 2.73V Blue; Current - Test: 2mA; Viewing Angle: 120°; Lens Style/Size: Square with Flat Top, 1mm; Lens Type: Clear; Package / Case: 0404 (1010 Metric); Size / Dimension: 1.00mm L x 1.00mm W; Height: 0.25mm; Mounting Type: Surface Mount
footprint SML-LX0404SIUPGUSB (LED RGB SQUARE CLEAR SMD)
pins: 1, 2, 3, 4

## SN74AVC4T774RSVR
designator U?  Operating Temperature: -40°C ~ 85°C  Package / Case: 16-UFQFN
IC BUS TRANSCVR 4BIT DUAL 16QFN; Logic Function: Translator, Bidirectional, 3-State; Number of Bits: 4; Input Type: Logic; Data Rate: 380Mbps; Number of Outputs/Channel: 1; Differential - Input:Output: No/No; Propagation Delay (Max): 2.4ns; Voltage Supply: 1.2 V ~ 3.6 V; Output Type: Logic; Number of Channels: 4
footprint QFN40P180X260X55-16N (QFN, 16-Leads, Body 1.80x2.60mm, Pitch 0.40mm, IPC Medium Density)
pins: 1 A1, 2 A2, 3 A3, 4 A4, 5 DIR3, 6 DIR4, 7 ~{0E}, 8 GND, 9 B4, 10 B3, 11 B2, 12 B1, 13 VCCB, 14 VCCA, 15 DIR1, 16 DIR2

## TI-ADS1298RZXG64
designator U?
footprint TI-ZXG64 (BGA, 64-Balls, Body 8x8mm, Pitch 0.8mm)
part A pins: A1 IN8P (in) "Differential analog positive input 8 (ADS1298/8R)", A2 IN8N (in) "Differential analog negative input 8 (ADS1298/8R)", A3 RLDIN (in) "Right leg drive input to MUX", B1 IN7P (in) "Differential analog positive input 7 (ADS1298/8R)", B2 IN7N (in) "Differential analog negative input 7 (ADS1298/8R)", B3 RLDOUT (out) "Right leg drive output", B7 VCAP3 "Analog bypass capacitor; internally generated AVDD + 1.9V.", B8 CLKSEL (in) "Master clock select", C1 IN6P (in) "Differential analog positive input 6 (ADS1296/8/6R/8R)", C2 IN6N (in) "Differential analog negative input 6 (ADS1296/8/6R/8R)", C3 RLDINV (in) "Right leg drive inverting input", C4 RLDREF (in) "Right leg drive noninverting input", D1 IN5P (in) "Differential analog positive input 5 (ADS1296/8/6R/8R)", D2 IN5N (in) "Differential analog negative input 5 (ADS1296/8/6R/8R)", D3 WCT (out) "Wilson Central Terminal output", D6 ~{DRDY} (out) "Data ready; active low", E1 IN4P (in) "Differential analog positive input 4", E2 IN4N (in) "Differential analog negative input 4", E3 TESTP_PACE_OUT1 (io) "Internal test signal/single-ended buffer output based on register settings", E5 GPIO4 (io) "GPIO4 in normal mode", E6 GPIO3 (io) "GPIO3 in normal mode", E7 GPIO2 (io) "General-purpose input/output pin", E8 DOUT (hiz) "SPI data out", F1 IN3P (in) "Differential analog positive input 3", F2 IN3N (in) "Differential analog negative input 3", F3 TESTN_PACE_OUT2 (io) "Internal test signal/single-ended buffer output based on register settings", F4 RESP_MODN "ADS1294R/6R/8R: modulation clock for respiration measurement, negative side. ADS1294/6/8: leave floating.", F5 GPIO1 (io) "General purpose input/output pin", F6 DAISY_IN (in) "Daisy-chain input; if not used, short to DGND.", F7 ~{CS} (in) "SPI chip select; active low", F8 SCLK (in) "SPI clock", G1 IN2P (in) "Differential analog positive input 2", G2 IN2N (in) "Differential analog negative input 2", G3 VCAP4 "Analog bypass capacitor", G4 RESP_MODP "ADS1294R/6R/8R: modulation clock for respiration measurement, positive side. ADS1294/6/8: leave floating.", G5 ~{PWDN} (in) "Power-down; active low", G6 ~{RESET} (in) "System reset; active low", G7 START (in) "Start conversion", G8 CLK (io) "External Master clock input or internal clock output.", H1 IN1P (in) "Differential analog positive input 1", H2 IN1N (in) "Differential analog negative input 1", H3 VREFP (in) "Positive reference voltage", H4 VREFN (in) "Negative reference voltage", H5 VCAP1 "Analog bypass capacitor", H6 VCAP2 "Analog bypass capacitor", H8 DIN (in) "SPI data in"
part B pins: A4 AVDD (power) "Analog supply", A5 AVSS (power) "Analog ground", A6 AVDD (power) "Analog supply", A7 AVDD1 (power) "Analog supply for charge pump", A8 AVSS1 (power) "Analog ground for charge pump", B4 AVDD (power) "Analog supply", B5 AVSS (power) "Analog ground", B6 AVDD (power) "Analog supply", C5 AVSS (power) "Analog ground", C6 AVDD (power) "Analog supply", C7 DGND (power) "Digital ground", C8 DVDD (power) "Digital power supply", D4 AVSS (power) "Analog ground", D5 AVSS (power) "Analog ground", D7 DGND (power) "Digital ground", D8 DVDD (power) "Digital power supply", E4 RESV1 (power) "Reserved for future use; must tie to logic low (DGND).", H7 DGND (power) "Digital ground"

## TI-TPD2E001-SON_DRY-6
designator U?, comment TPD2E001DRYR
TVS DIODE 5.5VWM 100VC 6SON; Bidirectional Channels: 2; Voltage - Reverse Standoff (Typ): 5.5V (Max); Voltage - Breakdown (Min): 11V; Voltage - Clamping (Max) @ Ipp: 100V; Type: Steering (Rail to Rail); Operating Temperature: -40°C ~ 85°C (TA); Package / Case: 6-UFDFN
footprint DRY6 (PSON, 6-Leads, Body 1x1.45mm, Pitch 0.5mm, TI Recommended)
pins: 1 VCC (power) "Power-supply input. Bypass VCC to GND with a 0.1-uF ceramic capacitor.", 2 NC "No connection. Not internally connected.", 3 IO1 "ESD-protected channel", 4 GND (power) "Ground", 5 NC "No connection. Not internally connected.", 6 IO2 "ESD-protected channel"

## TI-TPS79NXX-YYSOT5
designator U?, comment TPS799185YZUR
IC REG LDO 1.85V 0.2A 5DSBGA; Regulator Topology: Positive Fixed; Current Output: 200mA; Number of Regulators: 1; Volage - Input: 2.7 V ~ 6.5 V; Voltage - Output: 1.85V; Current - Limit (Min): 200mA; Operating Temperature: -40°C ~ 125°C; Package / Case: 5-UFBGA, DSBGA
footprint BGA5C50P2X3_97X134X62 (BGA, 5-Leads, Body 0.97x1.34mmx0.63mm, Pitch 0.50mm)
pins: A1 EN (in) "Driving the enable pin (EN) high turns on the regulator .Driving this pin low puts the regulator into shutdown mode.EN can be connected to IN if not used.", A3 NR "Fixed voltage versions only; connecting an external capacitor to this pin bypasses noise generated by the internal bandgap. This capacitor allows output noise to be reduced to very low levels.", B2 GND (power) "Ground.", C1 OUT (power) "Output for the regulator. A small capacitor (total typical capacitance >= 2.0uF ceramic) is needed from this pin to ground to assure stability.", C3 IN (power) "Input supply."

## TPD2E001DRLR
designator U?, comment TPD2E001-SOT_DRL-5
TVS DIODE 5.5VWM 100VC SOT5; Bidirectional Channels: 2; Voltage - Reverse Standoff (Typ): 5.5V (Max); Voltage - Breakdown (Min): 11V; Voltage - Clamping (Max) @ Ipp: 100V; Power Line Protection: Yes; Type: Steering (Rail to Rail); Operating Temperature: -40°C ~ 85°C (TA); Package / Case: SOT-553; Supplier Device Package: 5-SOT
footprint TPD2E001DRLR (SOTFL, 5-Flat Leads, Body 1.2x1.6x0.6mm, Pitch 0.5mm, TI Recommended)
pins: 1 VCC (power) "Power-supply input. Bypass VCC to GND with a 0.1-uF ceramic capacitor.", 2 NC "No connection. Not internally connected.", 3 IO1 "ESD-protected channel", 4 GND (power) "Ground", 5 IO2 "ESD-protected channel"

## TPS2553DRVR
designator U?
IC PWR DIST SWITCH ADJ 6-SON; Number of Outputs: 1; Ratio - Input:Output: 1:1; Output Configuration: High Side; Output Type: N-Channel; Interface: On/Off; Voltage - Load: 2.5 V ~ 6.5 V; Voltage - Supply (Vcc/Vdd): Not Required; Current - Output (Max): 75mA; Rds (On): 100 mOhm; Input Type: Non-Inverting; Fault Protection: Current Limiting (Adjustable), Over Temperature, UVLO; Features: Slew Rate Controlled; Operating Temperature: -40°C ~ 150°C (TJ)
footprint DRV6-1600X1000TP (SON, 6-Leads, Body 2x2mm, Pitch 0.65mm, Thermal Pad 1.6x1mm, TI Recommended)
pins: 1 OUT, 2 ILIM, 3 ~{FAULT}, 4 EN, 5 GND, 6 IN, 7 EP

## USB hard solder w/shield
designator J?
USB 4PIN 2.54MM PITCH 1.02MM HOLE .51 PAD
footprint USB hard solder w/shield (Vias for USB with additional via for Shield)
pins: 1 VCC, 2 D-, 3 D+, 4 GND, 5 GND

## VLF504015MT-4R7M
designator L?
INDUCTOR POWER 4.7UH SMD
footprint VLF504015MT (SMD INDUCTOR, 2-Leads, Body 4x5mm)
pins: 1, 2

## VLP-250-R
designator LP?
LIGHT PIPE VERTICAL .250" ROUND; Configuration: Single; Lens Style/Size: Round with Domed Top, 3mm; Color: Clear; Type: Rigid; Mounting Type: Board Mount, Press Fit
footprint VLP-250-R (LIGHT PIPE VERTICAL .250" ROUND)

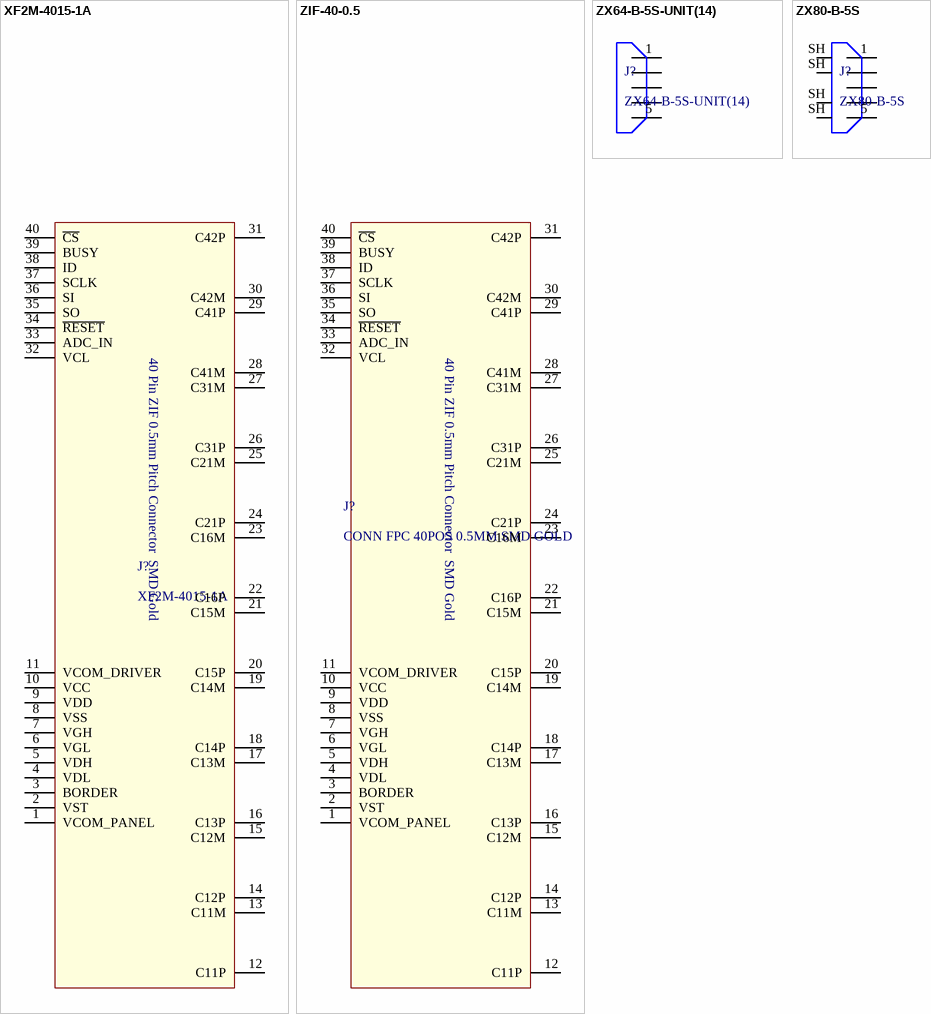
[diagram p4: symbols XF2M-4015-1A to ZX80-B-5S]

## XF2M-4015-1A
designator J?
CONN FPC 40POS 0.5MM PITCH SMD; Connector/Contact Type: Contacts, Top and Bottom; Number of Positions: 40; Pitch: 0.020" (0.50mm); FFC, FCB Thickness: 0.30mm; Locking Feature: Rotary Lock, Backlock; Cable End Type: Tapered; Voltage Rating: 50V; Current Rating: 0.5A; Flat Flex Type: FPC; Mounting Type: Surface Mount, Right Angle; Termination: Solder; Height Above Board: 0.083" (2.10mm); Contact Material: Copper Alloy; Operating Temperature: -30°C ~ 85°C
pins: 1 VCOM_PANEL, 2 VST, 3 BORDER, 4 VDL, 5 VDH, 6 VGL, 7 VGH, 8 VSS, 9 VDD, 10 VCC, 11 VCOM_DRIVER, 12 C11P, 13 C11M, 14 C12P, 15 C12M, 16 C13P, 17 C13M, 18 C14P, 19 C14M, 20 C15P, 21 C15M, 22 C16P, 23 C16M, 24 C21P, 25 C21M, 26 C31P, 27 C31M, 28 C41M, 29 C41P, 30 C42M, 31 C42P, 32 VCL, 33 ADC_IN, 34 ~{RESET}, 35 SO, 36 SI, 37 SCLK, 38 ID, 39 BUSY, 40 ~{CS}
text: 40 Pin ZIF 0.5mm Pitch Connector  SMD Gold

## ZIF-40-0.5
designator J?, comment CONN FPC 40POS 0.5MM SMD GOLD
FH28-40S-0.5SH(05); Flat Flex Type: FFC, FPC; Connector/Contact Type: Contacts, Bottom; Number of Positions: 40; Pitch: 0.020" (0.50mm); FFC, FCB Thickness: 0.30mm; Locking Feature: Rotary Lock; Cable End Type: Tabbed; Actuator Material: Liquid Crystal Polymer (LCP), Halogen Free; Voltage Rating: 50V; Material Flammability Rating: UL94 V-0; Current Rating: 0.5A; Mounting Type: Surface Mount, Right Angle; Termination: Solder; Height Above Board: 0.100" (2.54mm); Contact Material: Phosphor Bronze; Contact Finish: Gold; Housing Material: Liquid Crystal Polymer (LCP), Halogen Free; Features: Solder Retention, Zero Insertion Force (ZIF); Operating Temperature: -40°C ~ 85°C
footprint FH28-40S-0.5SH(05) (CONN FPC 40POS 0.5MM SMD GOLD)
pins: 1 VCOM_PANEL, 2 VST, 3 BORDER, 4 VDL, 5 VDH, 6 VGL, 7 VGH, 8 VSS, 9 VDD, 10 VCC, 11 VCOM_DRIVER, 12 C11P, 13 C11M, 14 C12P, 15 C12M, 16 C13P, 17 C13M, 18 C14P, 19 C14M, 20 C15P, 21 C15M, 22 C16P, 23 C16M, 24 C21P, 25 C21M, 26 C31P, 27 C31M, 28 C41M, 29 C41P, 30 C42M, 31 C42P, 32 VCL, 33 ADC_IN, 34 ~{RESET}, 35 SO, 36 SI, 37 SCLK, 38 ID, 39 BUSY, 40 ~{CS}
text: 40 Pin ZIF 0.5mm Pitch Connector  SMD Gold

## ZX64-B-5S-UNIT(14)
designator J?
Connector Plug USB - micro B 2.0 5 Position Surface Mount, Right Angle, Horizontal; Number of Contacts: 5; Specifications: USB 2.0; Connector Type: USB - micro B; Gender Type: Plug; Mounting Type: Surface Mount, Right Angle, Horizontal
footprint ZX64-B-5S-UNIT(14) (Connector Plug USB - micro B 2.0 5 Position Surface Mount, Right Angle, Horizontal)
pins: 1 5V, 2 D-, 3 D+, 4 ID, 5 GND

## ZX80-B-5S
designator J?
Connector Receptacle USB - micro B 2.0 5 Position Through Hole, Vertical; Number of Contacts: 5; Connector Type: USB - micro B; Gender: Receptacle; Mounting Type: Through Hole, Vertical; Features: Board Guide
footprint ZX80-B-5S (Connector Receptacle USB - micro B 2.0 5 Position Through Hole, Vertical)
pins: 1 5V, 2 D-, 3 D+, 4 ID, 5 GND, SH, SH, SH, SH